# Altium footprint library TMP102.PcbLib: 1 footprints
Each footprint in its own frame and in the unit in brackets; x right, y up, seen from the top. Pads: shape width x height; smd on the part's side, far side on the other; paste and mask are expansions set on the pad; w line width, h text height; cw(c..) or ccw(c..) is an arc to the next point about the centre after c.
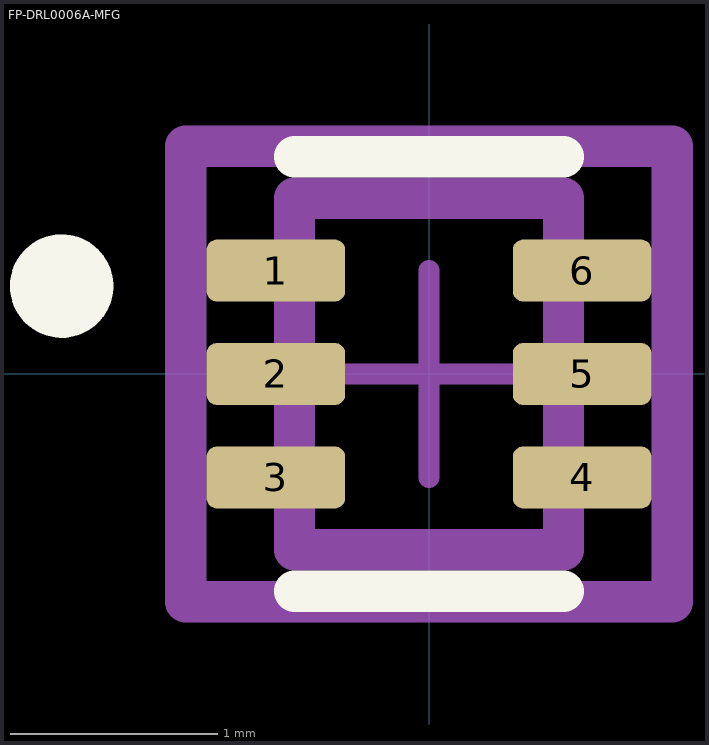
[diagram p0: the footprint, top view; thin cyan lines are the x and y axes]

## FP-DRL0006A-MFG [mm]
pads (6):
  rrect33% 0.67x0.3 smd paste+0 mask+0: 1(-0.74,0.5) 2(-0.74,0) 3(-0.74,-0.5) 4(0.74,-0.5) 5(0.74,0) 6(0.74,0.5)
Top Overlay:
  circle w0.25: c-1.775,0.425 r0.125
  lines w0.2: -0.65,-1.05 0.65,-1.05 ; -0.65,1.05 0.65,1.05
Top Assembly:
  lines w0.2: -1.175,-1.1 -1.175,1.1 1.175,1.1 1.175,-1.1 -1.175,-1.1
  text ".Designator" at 0,0.188 h1
Top 3D Body:
  lines w0.2: -0.65,-0.85 -0.65,0.85 0.65,0.85 0.65,-0.85 -0.65,-0.85
Top Courtyard:
  lines w0.2: -1.175,-1.1 -1.175,1.1 1.175,1.1 1.175,-1.1 -1.175,-1.1
Top Component Center:
  lines w0.1: -0.5,0 0.5,0 ; 0,-0.5 0,0.5
3D body "Diode_Texas_Instruments_TPD2E1B06DRLR_eec.STEP": height 0.25, standoff 0, extent -1.175,-1.1 1.175,1.1